# Altium footprint library HyTechDevices.PCBLIB: 298 footprints (part 13 of 19)
Each footprint in its own frame and in the unit in brackets; x right, y up, seen from the top. Pads: shape width x height; smd on the part's side, far side on the other; paste and mask are expansions set on the pad; w line width, h text height; cw(c..) or ccw(c..) is an arc to the next point about the centre after c.
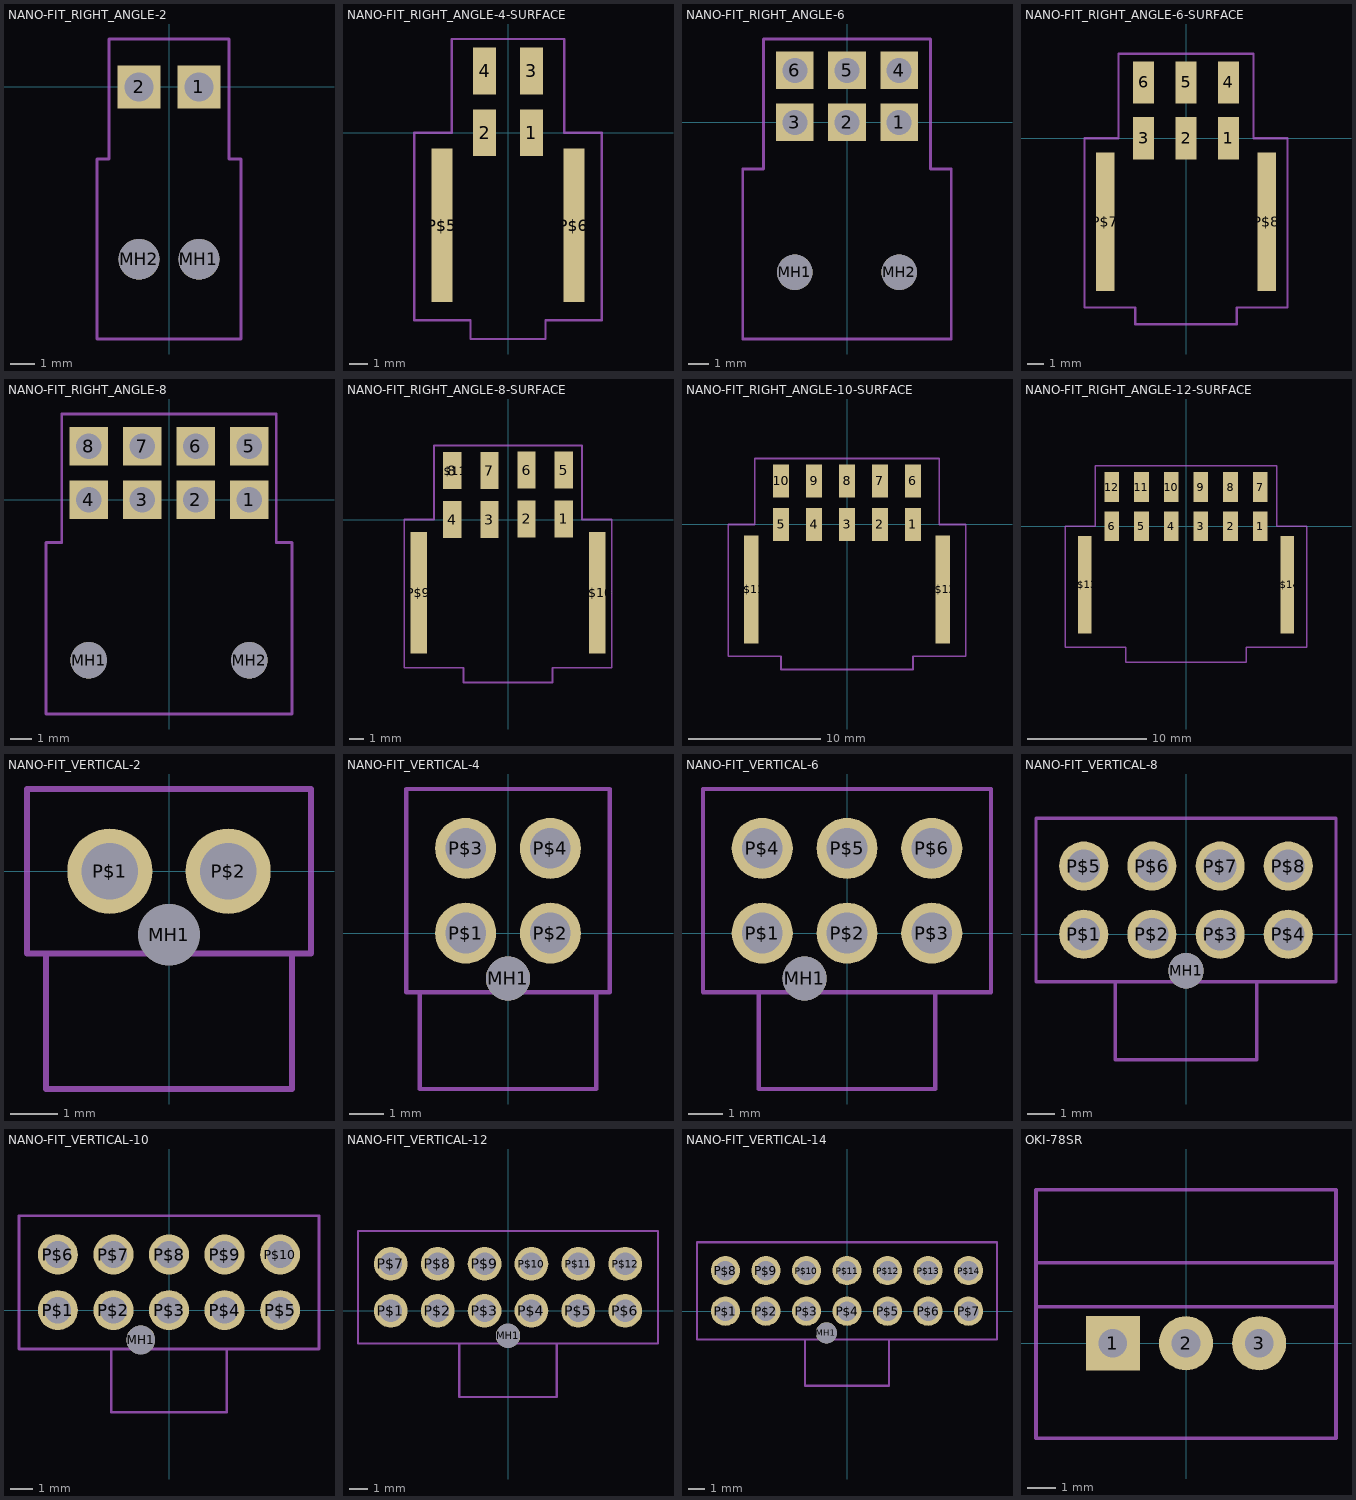
[diagram p12: the footprints below, top view; thin cyan lines are the x and y axes]

## NANO-FIT_RIGHT_ANGLE-2 [mil]
pads (4):
  rect 70.86x70.86 / inner round 65.47 / far side rect 70.86x70.86 hole 47.24: 1(49.21,0) 2(-49.21,0)
  round 66.93 hole 66.93 unplated: MH1(49.21,-282.68) MH2(-49.21,-282.68)
Mechanical 7:
  lines w5: -118.11,-413.39 118.11,-413.39 118.11,-118.11 98.43,-118.11 98.43,78.74 -98.43,78.74 -98.43,-118.11 -118.11,-118.11 -118.11,-413.39

## NANO-FIT_RIGHT_ANGLE-4-SURFACE [mil]
pads (6):
  rect 48.82x98.43 smd: 1(49.21,0) 2(-49.21,0) 3(49.21,129.92) 4(-49.21,129.92)
  rect 43.31x322.83 smd: P$5(-138.58,-194.09) P$6(138.58,-194.09)
Mechanical 7:
  lines w5: -196.85,-393.7 -78.74,-393.7 -78.74,-433.07 78.74,-433.07 78.74,-393.7 196.85,-393.7 196.85,0 118.11,0 118.11,196.85 -118.11,196.85 -118.11,0 -196.85,0 -196.85,-393.7

## NANO-FIT_RIGHT_ANGLE-6 [mil]
pads (8):
  rect 70.86x70.86 / inner round 65.47 / far side rect 70.86x70.86 hole 47.24: 1(98.43,0) 2(0,0) 3(-98.43,0) 4(98.43,98.43) 5(0,98.43) 6(-98.43,98.43)
  round 66.93 hole 66.93 unplated: MH1(-98.43,-282.68) MH2(98.43,-282.68)
Mechanical 7:
  lines w5: -196.85,-408.66 196.85,-408.66 196.85,-87.8 157.48,-87.8 157.48,157.48 -157.48,157.48 -157.48,-87.8 -196.85,-87.8 -196.85,-408.66

## NANO-FIT_RIGHT_ANGLE-6-SURFACE [mil]
pads (8):
  rect 48.82x98.43 smd: 1(98.43,0) 2(0,0) 3(-98.43,0) 4(98.43,129.92) 5(0,129.92) 6(-98.43,129.92)
  rect 43.31x322.83 smd: P$7(-187.8,-194.09) P$8(187.8,-194.09)
Mechanical 7:
  lines w5: -236.22,-393.7 -236.22,0 -157.48,0 -157.48,196.85 157.48,196.85 157.48,0 236.22,0 236.22,-393.7 118.11,-393.7 118.11,-433.07 -118.11,-433.07 -118.11,-393.7 -236.22,-393.7

## NANO-FIT_RIGHT_ANGLE-8 [mil]
pads (10):
  rect 70.86x70.86 / inner round 65.47 / far side rect 70.86x70.86 hole 47.24: 1(147.64,0) 2(49.21,0) 3(-49.21,0) 4(-147.64,0) 5(147.64,98.43) 6(49.21,98.43) 7(-49.21,98.43) 8(-147.64,98.43)
  round 66.93 hole 66.93 unplated: MH1(-147.64,-294.88) MH2(147.64,-294.88)
Mechanical 7:
  lines w5: -225.98,-393.7 225.98,-393.7 225.98,-78.74 196.85,-78.74 196.85,157.48 -196.85,157.48 -196.85,-78.74 -225.98,-78.74 -225.98,-393.7

## NANO-FIT_RIGHT_ANGLE-8-SURFACE [mil]
pads (11):
  rect 48.82x98.43 smd: 1(147.64,1.57) 2(49.21,1.57) 3(-49.21,0) 4(-147.64,0) 5(147.64,131.5) 6(49.21,131.5) 7(-49.21,129.92) 8(-147.64,129.92) P$11(-147.64,129.92)
  rect 43.31x322.83 smd: P$9(-237.01,-194.09) P$10(237.01,-194.09)
Mechanical 7:
  lines w5: -275.59,-393.7 -275.59,0 -196.85,0 -196.85,196.85 196.85,196.85 196.85,0 275.59,0 275.59,-393.7 118.11,-393.7 118.11,-433.07 -118.11,-433.07 -118.11,-393.7 -275.59,-393.7

## NANO-FIT_RIGHT_ANGLE-10-SURFACE [mm]
pads (12):
  rect 1.24x2.5 smd: 1(5,0) 2(2.5,0) 3(0,0) 4(-2.5,0) 5(-5,0) 6(5,3.3) 7(2.5,3.3) 8(0,3.3) 9(-2.5,3.3) 10(-5,3.3)
  rect 1.1x8.2 smd: P$11(-7.27,-4.93) P$12(7.27,-4.93)
Mechanical 7:
  lines w0.127: -9,-10 -5,-10 -5,-11 5,-11 5,-10 9,-10 9,0 7,0 7,5 -7,5 -7,0 -9,0 -9,-10

## NANO-FIT_RIGHT_ANGLE-12-SURFACE [mil]
pads (14):
  rect 48.82x98.43 smd: 1(246.06,0) 2(147.64,0) 3(49.21,0) 4(-49.21,0) 5(-147.64,0) 6(-246.06,0) 7(246.06,129.92) 8(147.64,129.92) 9(49.21,129.92) 10(-49.21,129.92) 11(-147.64,129.92) 12(-246.06,129.92)
  rect 43.31x322.83 smd: P$13(-335.43,-194.09) P$14(335.43,-194.09)
Mechanical 7:
  lines w5: -400,-400 -200,-400 -200,-450 200,-450 200,-400 400,-400 400,0 300,0 300,200 -300,200 -300,0 -400,0 -400,-400

## NANO-FIT_VERTICAL-2 [mil]
pads (3):
  round 51.18 hole 51.18 unplated: MH1(0,-52.76)
  round 70.86 hole 47.24: P$1(-49.21,0) P$2(49.21,0)
Mechanical 7:
  lines w5: -102.36,-68.5 -118.11,-68.5 -118.11,68.5 118.11,68.5 118.11,-68.5 102.36,-68.5 ; -102.36,-68.5 -102.36,-181.1 102.36,-181.1 102.36,-68.5 ; -102.36,-68.5 102.36,-68.5

## NANO-FIT_VERTICAL-4 [mil]
pads (5):
  round 51.18 hole 51.18 unplated: MH1(0,-52.76)
  round 70.86 hole 47.24: P$1(-49.21,0) P$2(49.21,0) P$3(-49.21,98.43) P$4(49.21,98.43)
Mechanical 7:
  lines w5: 118.11,90.55 118.11,-68.9 102.36,-68.9 ; 118.11,91.34 118.11,167.32 -118.11,167.32 -118.11,-68.9 -102.36,-68.9 ; -102.36,-68.9 102.36,-68.9 ; -102.36,-68.9 -102.36,-181.1 102.36,-181.1 102.36,-68.9

## NANO-FIT_VERTICAL-6 [mil]
pads (7):
  round 51.18 hole 51.18 unplated: MH1(-49.21,-52.76)
  round 70.86 hole 47.24: P$1(-98.43,0) P$2(0,0) P$3(98.43,0) P$4(-98.43,98.43) P$5(0,98.43) P$6(98.43,98.43)
Mechanical 7:
  lines w5: -102.36,-68.9 -167.32,-68.9 -167.32,167.32 167.32,167.32 167.32,-68.9 102.36,-68.9 ; -102.36,-68.9 102.36,-68.9 ; -102.36,-68.9 -102.36,-181.1 102.36,-181.1 102.36,-68.9

## NANO-FIT_VERTICAL-8 [mil]
pads (9):
  round 51.18 hole 51.18 unplated: MH1(0,-52.76)
  round 70.86 hole 47.24: P$1(-147.64,0) P$2(-49.21,0) P$3(49.21,0) P$4(147.64,0) P$5(-147.64,98.43) P$6(-49.21,98.43) P$7(49.21,98.43) P$8(147.64,98.43)
Mechanical 7:
  lines w5: -102.36,-68.9 -216.54,-68.9 -216.54,167.32 216.54,167.32 216.54,-68.9 102.36,-68.9 ; -102.36,-68.9 102.36,-68.9 ; -102.36,-68.9 -102.36,-181.1 102.36,-181.1 102.36,-68.9

## NANO-FIT_VERTICAL-10 [mm]
pads (11):
  round 1.3 hole 1.3 unplated: MH1(-1.27,-1.34)
  round 1.8 hole 1.2: P$1(-5,0) P$2(-2.5,0) P$3(0,0) P$4(2.5,0) P$5(5,0) P$6(-5,2.5) P$7(-2.5,2.5) P$8(0,2.5) P$9(2.5,2.5) P$10(5,2.5)
Mechanical 7:
  lines w0.127: -2.6,-1.75 -6.75,-1.75 -6.75,4.25 6.75,4.25 6.75,-1.75 2.6,-1.75 ; -2.6,-1.75 2.6,-1.75 ; -2.6,-1.75 -2.6,-4.6 2.6,-4.6 2.6,-1.75

## NANO-FIT_VERTICAL-12 [mil]
pads (13):
  round 51.18 hole 51.18 unplated: MH1(0,-52.76)
  round 70.86 hole 47.24: P$1(-246.06,0) P$2(-147.64,0) P$3(-49.21,0) P$4(49.21,0) P$5(147.64,0) P$6(246.06,0) P$7(-246.06,98.43) P$8(-147.64,98.43) P$9(-49.21,98.43) P$10(49.21,98.43) P$11(147.64,98.43) P$12(246.06,98.43)
Mechanical 7:
  lines w5: -102.36,-68.9 -314.96,-68.9 -314.96,167.32 314.96,167.32 314.96,-68.9 102.36,-68.9 ; -102.36,-68.9 102.36,-68.9 ; -102.36,-68.9 -102.36,-181.1 102.36,-181.1 102.36,-68.9

## NANO-FIT_VERTICAL-14 [mm]
pads (15):
  round 1.3 hole 1.3 unplated: MH1(-1.27,-1.34)
  round 1.8 hole 1.2: P$1(-7.5,0) P$2(-5,0) P$3(-2.5,0) P$4(0,0) P$5(2.5,0) P$6(5,0) P$7(7.5,0) P$8(-7.5,2.5) P$9(-5,2.5) P$10(-2.5,2.5) P$11(0,2.5) P$12(2.5,2.5) P$13(5,2.5) P$14(7.5,2.5)
Mechanical 7:
  lines w0.127: -2.6,-1.75 -9.25,-1.75 -9.25,4.25 9.25,4.25 9.25,-1.75 2.6,-1.75 ; -2.6,-1.75 2.6,-1.75 ; -2.6,-1.75 -2.6,-4.6 2.6,-4.6 2.6,-1.75

## OKI-78SR [mil]
pads (3):
  rect 74x74 / inner round 68.37 / far side rect 74x74 hole 39.37: 1(-100,0)
  round 74 hole 39.37: 2(0,0) 3(100,0)
Mechanical 7:
  lines w5: -205,50 -205,-130 205,-130 205,50 ; -205,50 -205,110 ; -205,50 205,50 ; -205,110 -205,210 205,210 205,110 ; -205,110 205,110 ; 205,50 205,110